# Altium footprint library con-other-old.PcbLib: 6 footprints
Each footprint in its own frame and in the unit in brackets; x right, y up, seen from the top. Pads: shape width x height; smd on the part's side, far side on the other; paste and mask are expansions set on the pad; w line width, h text height; cw(c..) or ccw(c..) is an arc to the next point about the centre after c.
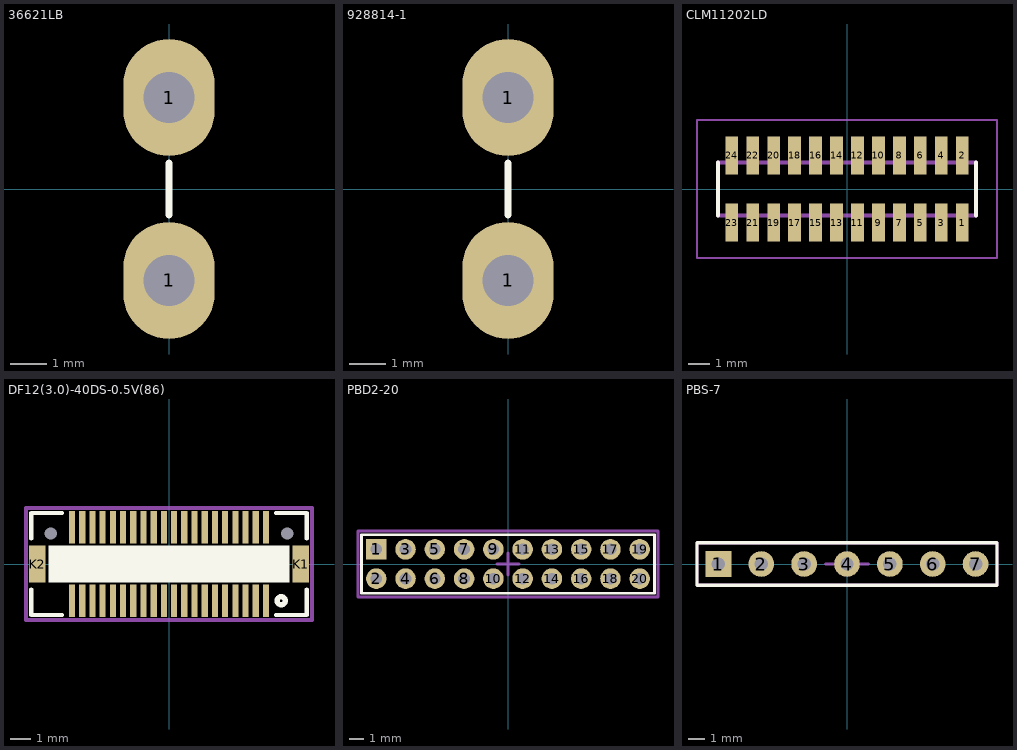
[diagram p0: the footprints below, top view; thin cyan lines are the x and y axes]

## 36621LB [mm] "6.3mm PCB terminal"
height 7
pads (2):
  oval 2.5x3.2 hole 1.4: 1(0,-2.5) 1(0,2.5)
Top Overlay:
  lines w0.2: 0,-0.7 0,0.7
3D body "User Library-Tab_ 6_3x8_straight.step": height 10.6, standoff -3.6, extent -0.4,-4 0.4,4

## 928814-1 [mm] "6.3mm PCB terminal Right Angle"
height 7
pads (2):
  oval 2.5x3.2 hole 1.4: 1(0,-2.5) 1(0,2.5)
Top Overlay:
  lines w0.2: 0,-0.7 0,0.7
3D body "User Library-TycoElectronics 928814 - SOLDER TAB 6_3X0_8 FOR PCB.step": height 8.1, standoff -3, extent -0.4,-2.8 0.4,13.2

## CLM11202LD [mm] "1mm pitch smd socket"
height 2.41
pads (24):
  rect 0.61x1.8 smd: 1(5.5,-1.601) 2(5.5,1.601) 3(4.5,-1.601) 4(4.5,1.601) 5(3.5,-1.601) 6(3.5,1.601) 7(2.5,-1.601) 8(2.5,1.601) 9(1.5,-1.601) 10(1.5,1.601) 11(0.5,-1.601) 12(0.5,1.601) 13(-0.5,-1.601) 14(-0.5,1.601) 15(-1.5,-1.601) 16(-1.5,1.601) 17(-2.5,-1.601) 18(-2.5,1.601) 19(-3.5,-1.601) 20(-3.5,1.601) 21(-4.5,-1.601) 22(-4.5,1.601) 23(-5.5,-1.601) 24(-5.5,1.601)
Top Overlay:
  lines w0.2: -6.159,-1.27 -6.159,1.27 ; 6.159,-1.27 6.159,1.27
Mechanical 13:
  lines w0.2: -6.159,-1.27 -6.159,1.27 6.159,1.27 6.159,-1.27 -6.159,-1.27
Mechanical 15:
  lines w0.1: -7.159,-3.286 -7.159,3.286 7.159,3.286 7.159,-3.286 -7.159,-3.286
3D body: height 2.26, standoff 0, extent -6.159,-1.27 6.159,1.27

## DF12(3.0)-40DS-0.5V(86) [mm]
height 2.2
pads (44):
  rect 0.3x1.6 smd: 1(4.75,-1.8) 2(4.75,1.8) 3(4.25,-1.8) 4(4.25,1.8) 5(3.75,-1.8) 6(3.75,1.8) 7(3.25,-1.8) 8(3.25,1.8) 9(2.75,-1.8) 10(2.75,1.8) 11(2.25,-1.8) 12(2.25,1.8) 13(1.75,-1.8) 14(1.75,1.8) 15(1.25,-1.8) 16(1.25,1.8) 17(0.75,-1.8) 18(0.75,1.8) 19(0.25,-1.8) 20(0.25,1.8) 21(-0.25,-1.8) 22(-0.25,1.8) 23(-0.75,-1.8) 24(-0.75,1.8) 25(-1.25,-1.8) 26(-1.25,1.8) 27(-1.75,-1.8) 28(-1.75,1.8) 29(-2.25,-1.8) 30(-2.25,1.8) 31(-2.75,-1.8) 32(-2.75,1.8) 33(-3.25,-1.8) 34(-3.25,1.8) 35(-3.75,-1.8) 36(-3.75,1.8) 37(-4.25,-1.8) 38(-4.25,1.8) 39(-4.75,-1.8) 40(-4.75,1.8)
  rect 0x0 hole 0.6 unplated: H1(-5.8,1.5) H2(5.8,1.5)
  rect 0.8x1.8 smd: K1(6.45,0) K2(-6.45,0)
Top Overlay:
  circle w0.254: c5.5,-1.8 r0.2
  rectangle: -5.9,-0.9 5.9,0.9
  lines w0.2: -6.75,-1.25 -6.75,-2.5 -5.25,-2.5 ; -6.75,1.25 -6.75,2.5 -5.25,2.5 ; 5.25,-2.5 6.75,-2.5 6.75,-1.25 ; 5.25,2.5 6.75,2.5 6.75,1.25
Mechanical 15:
  lines w0.2: -0.5,0 0.5,0 ; 0,-0.5 0,0.5 ; -7,-2.75 7,-2.75 7,2.75 -7,2.75 -7,-2.75
3D body "DF12-40DS-0.5V.stp": height 2.7, standoff -0.6, extent -6.55,-2.3 6.55,2.3

## PBD2-20 [mm] "DS1026-06"
height 4.3
pads (20):
  rect 1.4x1.4 hole 0.8: 1(-9,1)
  round 1.4 hole 0.8: 2(-9,-1) 3(-7,1) 4(-7,-1) 5(-5,1) 6(-5,-1) 7(-3,1) 8(-3,-1) 9(-1,1) 10(-1,-1) 11(1,1) 12(1,-1) 13(3,1) 14(3,-1) 15(5,1) 16(5,-1) 17(7,1) 18(7,-1) 19(9,1) 20(9,-1)
Top Overlay:
  lines w0.2: -10,-2 10,-2 10,2 -10,2 -10,-2
Mechanical 15:
  lines w0.2: -0.75,0 0.75,0 ; 0,-0.75 0,0.75 ; -10.25,-2.25 -10.25,2.25 10.25,2.25 10.25,-2.25 -10.25,-2.25
3D body "User Library-PBD2-20.STEP": height 4.3, standoff -2.7, extent -10,-2 10,2

## PBS-7 [mil] "DS1023-1x7"
height 334.65
pads (7):
  rect 60x60 hole 31.5: 1(-300,0)
  round 60 hole 31.5: 2(-200,0) 3(-100,0) 4(0,0) 5(100,0) 6(200,0) 7(300,0)
Top Overlay:
  lines w7.87: -350,-50 350,-50 350,50 -350,50 -350,-50
Mechanical 15:
  lines w7.87: -50,0 50,0 ; 0,-25 0,25 ; -350,-50 350,-50 350,50 -350,50 -350,-50
3D body "PBS-7.stp": height 330.71, standoff -125.98, extent -349.99,-49.99 350.01,50.01